# EAGLE library part EL84 (library tubes)
EL84: RF pentode tube (jj-electronic) Heater 6.3V/760mA, 250V Ua, 12W Qmax
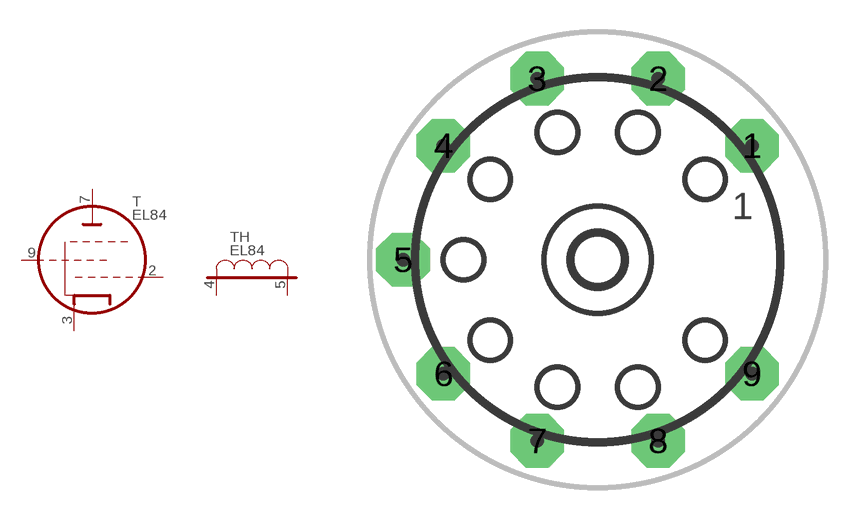
[diagram p2: symbol with the pads of NOVAL; footprint NOVAL]

Designator prefix T; gates  =EL84A H=EL84H

## EL84  [NOVAL]
2   :G1
3   :C
4  H:H1
5  H:H2
7   :A
9   :G2  in

## Footprint NOVAL (pad centres in mm)
Vacuum tube socket, 9 pins
drill 1.295 pad 2.54 octagon: 1 0,0; 2 -4.445,3.175; 3 -10.16,3.175; 4 -14.605,0; 5 -16.51,-5.397; 6 -14.605,-10.795; 7 -10.16,-13.97; 8 -4.445,-13.97; 9 0,-10.795